# EAGLE library part MDIN06SS (library crasbe)
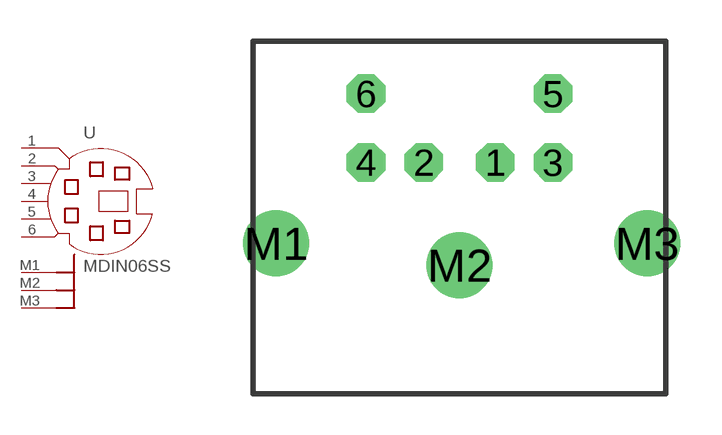
[diagram p27: symbol with the pads of MDIN06; footprint MDIN06]

Designator prefix -

## MDIN06SS  [MDIN06]
1  1  pas
2  2  pas
3  3  pas
4  4  pas
5  5  pas
6  6  pas
M1  P$1  pwr
M2  P$2  pwr
M3  P$3  pwr

## Footprint MDIN06 (pad centres in mm)
drill 0.9 octagon: 1 1.3,1.833; 2 -1.3,1.833; 3 3.4,1.833; 4 -3.4,1.833; 5 3.4,4.332; 6 -3.4,4.332
drill 1.6: M1 -6.668,-1.111; M2 0,-1.905; M3 6.826,-1.111